# Altium footprint library PCB - CONNECTOR - HARWIN - HARWIN M20-9741345.PcbLib: 1 footprints
Each footprint in its own frame and in the unit in brackets; x right, y up, seen from the top. Pads: shape width x height; smd on the part's side, far side on the other; paste and mask are expansions set on the pad; w line width, h text height; cw(c..) or ccw(c..) is an arc to the next point about the centre after c.
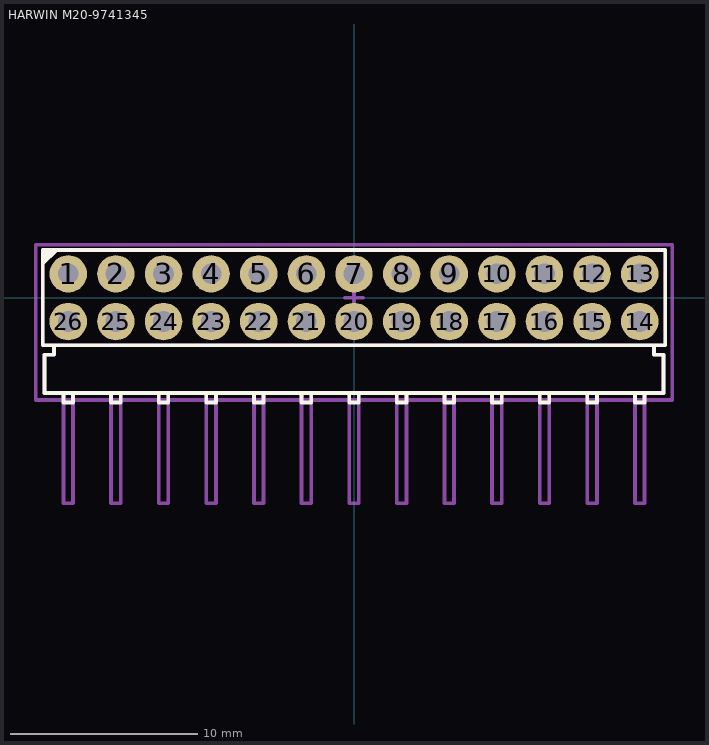
[diagram p0: the footprint, top view; thin cyan lines are the x and y axes]

## HARWIN M20-9741345 [mm] "2.54mm DIL PC TAIL PIN HEADER ASSEMBLY"
height 2.54
pads (26):
  round 2 hole 1.1: 1(-15.24,1.27) 2(-12.7,1.27) 3(-10.16,1.27) 4(-7.62,1.27) 5(-5.08,1.27) 6(-2.54,1.27) 7(0,1.27) 8(2.54,1.27) 9(5.08,1.27) 10(7.62,1.27) 11(10.16,1.27) 12(12.7,1.27) 13(15.24,1.27) 14(15.24,-1.27) 15(12.7,-1.27) 16(10.16,-1.27) 17(7.62,-1.27) 18(5.08,-1.27) 19(2.54,-1.27) 20(0,-1.27) 21(-2.54,-1.27) 22(-5.08,-1.27) 23(-7.62,-1.27) 24(-10.16,-1.27) 25(-12.7,-1.27) 26(-15.24,-1.27)
Top Overlay:
  region: -16.62,2.57 -16.62,1.67 -15.72,2.57
  lines w0.2: -16.002,-2.54 -16.002,-3.048 -16.51,-3.048 -16.51,-5.08 16.51,-5.08 16.51,-3.048 16.002,-3.048 16.002,-2.54 ; -15.494,-5.08 -15.494,-5.588 -14.986,-5.588 -14.986,-5.08 ; -12.954,-5.08 -12.954,-5.588 -12.446,-5.588 -12.446,-5.08 ; -10.414,-5.08 -10.414,-5.588 -9.906,-5.588 -9.906,-5.08 ; -7.874,-5.08 -7.874,-5.588 -7.366,-5.588 -7.366,-5.08 ; -5.334,-5.08 -5.334,-5.588 -4.826,-5.588 -4.826,-5.08 ; -2.794,-5.08 -2.794,-5.588 -2.286,-5.588 -2.286,-5.08 ; -0.254,-5.08 -0.254,-5.588 0.254,-5.588 0.254,-5.08 ; 2.286,-5.08 2.286,-5.588 2.794,-5.588 2.794,-5.08 ; 4.826,-5.08 4.826,-5.588 5.334,-5.588 5.334,-5.08 ; 7.366,-5.08 7.366,-5.588 7.874,-5.588 7.874,-5.08 ; 9.906,-5.08 9.906,-5.588 10.414,-5.588 10.414,-5.08 ; 12.446,-5.08 12.446,-5.588 12.954,-5.588 12.954,-5.08 ; 14.986,-5.08 14.986,-5.588 15.494,-5.588 15.494,-5.08 ; -16.6,-2.54 16.6,-2.54 16.6,2.54 -16.6,2.54 -16.6,-2.54
Top Assembly:
  lines w0.2: -15.494,-2.54 -16.002,-2.54 -16.002,-3.048 -16.51,-3.048 -16.51,-5.08 -15.494,-5.08 -15.494,-10.97 -14.986,-10.97 -14.986,-5.08 -12.954,-5.08 -12.954,-10.97 -12.446,-10.97 -12.446,-5.08 -10.414,-5.08 -10.414,-10.97 -9.906,-10.97 -9.906,-5.08 -7.874,-5.08 -7.874,-10.97 -7.366,-10.97 -7.366,-5.08 -5.334,-5.08 -5.334,-10.97 -4.826,-10.97 -4.826,-5.08 -2.794,-5.08 -2.794,-10.97 -2.286,-10.97 -2.286,-5.08 -0.254,-5.08 -0.254,-10.97 0.254,-10.97 0.254,-5.08 2.286,-5.08 2.286,-10.97 2.794,-10.97 2.794,-5.08 4.826,-5.08 4.826,-10.97 5.334,-10.97 5.334,-5.08 7.366,-5.08 7.366,-10.97 7.874,-10.97 7.874,-5.08 9.906,-5.08 9.906,-10.97 10.414,-10.97 10.414,-5.08 12.446,-5.08 12.446,-10.97 12.954,-10.97 12.954,-5.08 14.986,-5.08 14.986,-10.97 15.494,-10.97 15.494,-5.08 16.51,-5.08 16.51,-3.048 16.002,-3.048 16.002,-2.54 15.494,-2.54 ; -0.5,0 0.5,0 ; 0,-0.5 0,0.5 ; -16.6,-2.54 -16.6,2.54 16.6,2.54 16.6,-2.54 -16.6,-2.54
Top Courtyard (Mech15):
  lines w0.2: -16.97,-5.454 -16.97,2.83 16.97,2.83 16.97,-5.454 -16.97,-5.454
3D body "M20-7831342.step": height 5, standoff -3.04, extent -16.51,-10.97 16.51,1.59